# EAGLE library part 645010117322 (library Wire-to-Board (rev18a))
WR-WTB 3.96mm Male Right Locking Header, 10 Pins=>Code : Con_WTB_3.96_PCB_THT_645010117322 <http://katalog.we-online.de/media/thumbs2/eican/thb_Con_WTB_3.96_PCB_THT_6450xx117322_pf2.jpg> Details see: http://katalog.we-online.de/en/em/WTB_3_96_MALE_RIGHT_ANGLED_LOCKING_HEADER_6450XX117322 Created 2014-06-05, Karrer Zheng 2014 (C) Würth Elektronik
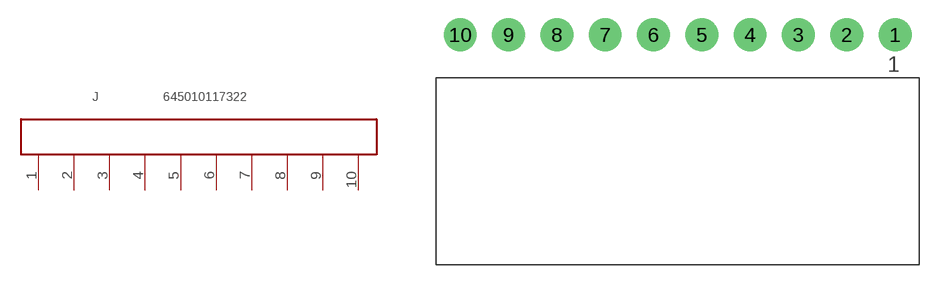
[diagram p4: symbol with the pads of 645010117322; footprint 645010117322]

Designator prefix J

## 645010117322  [645010117322]
1  10  pas
2  9  pas
3  8  pas
4  7  pas
5  6  pas
6  5  pas
7  4  pas
8  3  pas
9  2  pas
10  1  pas

## Footprint 645010117322 (pad centres in mm)
WR-WTB 3.96mm Male Right Angled Locking Header, 10 Pins
drill 1.8: 1 17.82,0; 2 13.86,0; 3 9.9,0; 4 5.94,0; 5 1.98,0; 6 -1.98,0; 7 -5.94,0; 8 -9.9,0; 9 -13.86,0; 10 -17.82,0